# Altium footprint library BUZZER.PcbLib: 1 footprints
Each footprint in its own frame and in the unit in brackets; x right, y up, seen from the top. Pads: shape width x height; smd on the part's side, far side on the other; paste and mask are expansions set on the pad; w line width, h text height; cw(c..) or ccw(c..) is an arc to the next point about the centre after c.
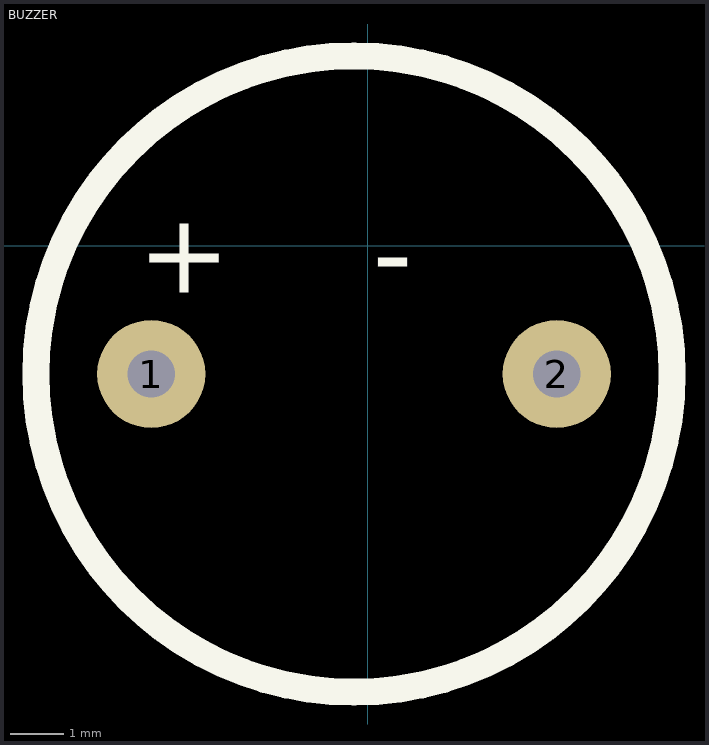
[diagram p0: the footprint, top view; thin cyan lines are the x and y axes]

## BUZZER [mil]
pads (2):
  round 80 hole 35: 1(-160,-95) 2(140,-95)
Top Overlay:
  circle w20: c-10,-95 r235.37
  text "+    -" at -170,-35 h60
3D body "TMB12A05.STEP": height 374.41, standoff -92.13, extent -245.43,-331.22 227.01,141.22